# Altium integrated library box 3d.IntLib: 1 symbol
Pins are listed as number, name and electrical type; pins without a type are passive.

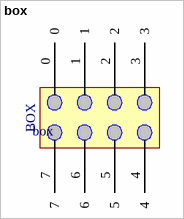
[diagram p0: symbol box]

## box
designator box
footprint BOX
pins: 0, 1, 2, 3, 4, 5, 6, 7
text: BOX